# Altium schematic symbol library LM7805.SchLib: 1 symbol
Pins are listed as number, name and electrical type; pins without a type are passive.

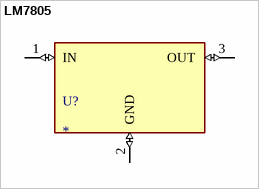
[diagram p0: symbol LM7805]

## LM7805
designator U?
MP: LM7805; Package: None; Availability: Unavailable; Value: *; Price: None
footprint TO220
pins: 1 IN (io), 2 GND (io), 3 OUT (io)